# EAGLE library part MCP2561-2 (library MCP2561-2 - High-Speed CAN Transceiver)
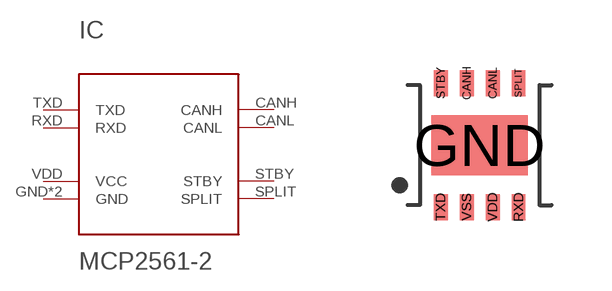
[diagram p0: symbol with the pads of DFN10; footprint DFN10]

Designator prefix IC

## MCP2561-2  [DFN10]
CANH  CANH
CANL  CANL
GND  GND  pwr
RXD  RXD  out
SPLIT  SPLIT
STBY  STBY
TXD  TXD  in
VDD  VCC  pwr
VSS  GND  pwr

## Footprint DFN10 (pad centres in mm)
smd 0.35 x 0.65: CANH -0.325,1.55; CANL 0.325,1.55; RXD 0.975,-1.55; SPLIT 0.975,1.55; STBY -0.975,1.55; TXD -0.975,-1.55; VDD 0.325,-1.55; VSS -0.325,-1.55
smd 2.4 x 1.5: GND 0,0